# Altium schematic symbol library Connector-CardEdge.SchLib: 4 symbols
Pins are listed as number, name and electrical type; pins without a type are passive.

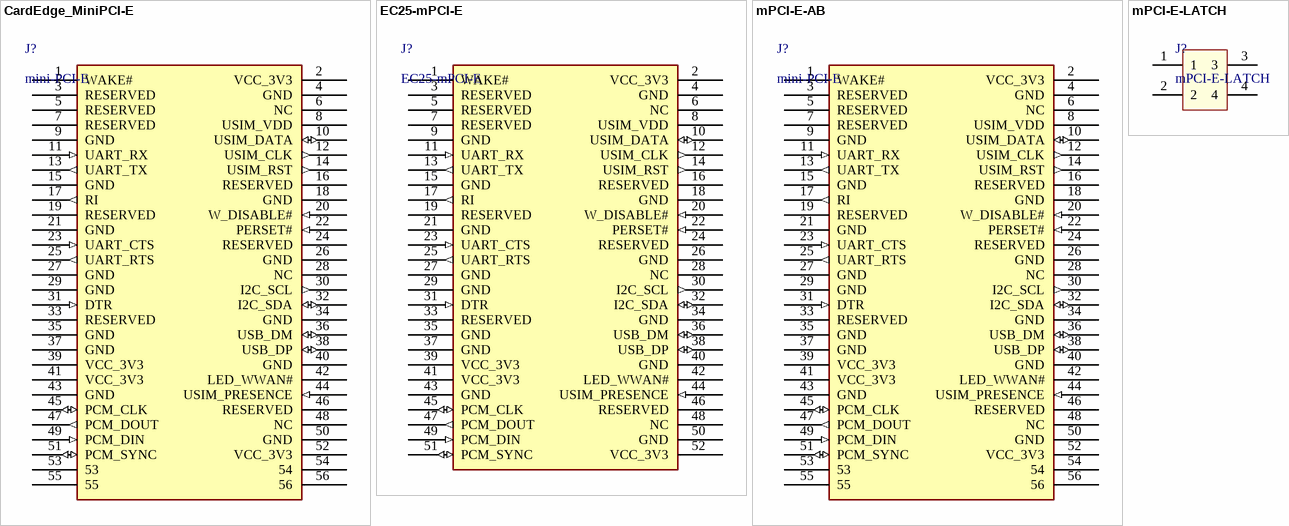
[diagram p0: symbols CardEdge_MiniPCI-E to mPCI-E-LATCH]

## CardEdge_MiniPCI-E
designator J?, comment mini-PCI-E
EC25 mini-PCI-E 座子; Manufacturer_Name: *; Manufacturer_Part_Number: *
footprint CardEdge_MINI-PCI-E-5.2H (MINI PCI-e 52P贴片插座，间距0.8mm 高度9mm)
footprint CardEdge_MINI-PCI-E-4H (MINI PCI-e 52P贴片插座)
pins: 1 WAKE# (oc), 2 VCC_3V3 (power), 3 RESERVED, 4 GND (power), 5 RESERVED, 6 NC, 7 RESERVED, 8 USIM_VDD (power), 9 GND (power), 10 USIM_DATA (io), 11 UART_RX (in), 12 USIM_CLK (out), 13 UART_TX (out), 14 USIM_RST (out), 15 GND (power), 16 RESERVED, 17 RI (out), 18 GND (power), 19 RESERVED, 20 W_DISABLE# (in), 21 GND (power), 22 PERSET# (in), 23 UART_CTS (in), 24 RESERVED, 25 UART_RTS (out), 26 GND (power), 27 GND (power), 28 NC, 29 GND (power), 30 I2C_SCL (out), 31 DTR (in), 32 I2C_SDA (io), 33 RESERVED, 34 GND (power), 35 GND (power), 36 USB_DM (io), 37 GND (power), 38 USB_DP (io), 39 VCC_3V3 (power), 40 GND (power), 41 VCC_3V3 (power), 42 LED_WWAN# (oc), 43 GND (power), 44 USIM_PRESENCE (in), 45 PCM_CLK (io), 46 RESERVED, 47 PCM_DOUT (out), 48 NC (power), 49 PCM_DIN (in), 50 GND (power), 51 PCM_SYNC (io), 52 VCC_3V3, 53, 54, 55, 56

## EC25-mPCI-E
designator J?
EC25 mini-PCI-E 座子; Manufacturer_Name: ARGOSY(优群); Manufacturer_Part_Number: MPCET-S5201-TP40
footprint mPCI-E-4H (MINI PCI-e 52P贴片插座)
footprint mPCI-E-5.6H (MINI PCI-e 52P贴片插座)
pins: 1 WAKE# (oc), 2 VCC_3V3 (power), 3 RESERVED, 4 GND (power), 5 RESERVED, 6 NC, 7 RESERVED, 8 USIM_VDD (power), 9 GND (power), 10 USIM_DATA (io), 11 UART_RX (in), 12 USIM_CLK (out), 13 UART_TX (out), 14 USIM_RST (out), 15 GND (power), 16 RESERVED, 17 RI (out), 18 GND (power), 19 RESERVED, 20 W_DISABLE# (in), 21 GND (power), 22 PERSET# (in), 23 UART_CTS (in), 24 RESERVED, 25 UART_RTS (out), 26 GND (power), 27 GND (power), 28 NC, 29 GND (power), 30 I2C_SCL (out), 31 DTR (in), 32 I2C_SDA (io), 33 RESERVED, 34 GND (power), 35 GND (power), 36 USB_DM (io), 37 GND (power), 38 USB_DP (io), 39 VCC_3V3 (power), 40 GND (power), 41 VCC_3V3 (power), 42 LED_WWAN# (oc), 43 GND (power), 44 USIM_PRESENCE (in), 45 PCM_CLK (io), 46 RESERVED, 47 PCM_DOUT (out), 48 NC (power), 49 PCM_DIN (in), 50 GND (power), 51 PCM_SYNC (io), 52 VCC_3V3

## mPCI-E-AB
designator J?, comment mini-PCI-E
EC25 mini-PCI-E 座子; Manufacturer_Name: *; Manufacturer_Part_Number: *
footprint CardEdge_MINI-PCI-E-4H (MINI PCI-e 52P贴片插座)
pins: 1 WAKE# (oc), 2 VCC_3V3 (power), 3 RESERVED, 4 GND (power), 5 RESERVED, 6 NC, 7 RESERVED, 8 USIM_VDD (power), 9 GND (power), 10 USIM_DATA (io), 11 UART_RX (in), 12 USIM_CLK (out), 13 UART_TX (out), 14 USIM_RST (out), 15 GND (power), 16 RESERVED, 17 RI (out), 18 GND (power), 19 RESERVED, 20 W_DISABLE# (in), 21 GND (power), 22 PERSET# (in), 23 UART_CTS (in), 24 RESERVED, 25 UART_RTS (out), 26 GND (power), 27 GND (power), 28 NC, 29 GND (power), 30 I2C_SCL (out), 31 DTR (in), 32 I2C_SDA (io), 33 RESERVED, 34 GND (power), 35 GND (power), 36 USB_DM (io), 37 GND (power), 38 USB_DP (io), 39 VCC_3V3 (power), 40 GND (power), 41 VCC_3V3 (power), 42 LED_WWAN# (oc), 43 GND (power), 44 USIM_PRESENCE (in), 45 PCM_CLK (io), 46 RESERVED, 47 PCM_DOUT (out), 48 NC (power), 49 PCM_DIN (in), 50 GND (power), 51 PCM_SYNC (io), 52 VCC_3V3, 53, 54, 55, 56

## mPCI-E-LATCH
designator J?
mPCI-E支架; Manufacturer_Name: MOLEX; Manufacturer_Part_Number: 480994000; LCSC: C492353
footprint mPCI-E-4H-LATCH (480994000)
footprint mPCI-E-5.7H-LATCH (0480995701)
pins: 1, 2, 3, 4